# EAGLE library part UM12BS (library geusebio)
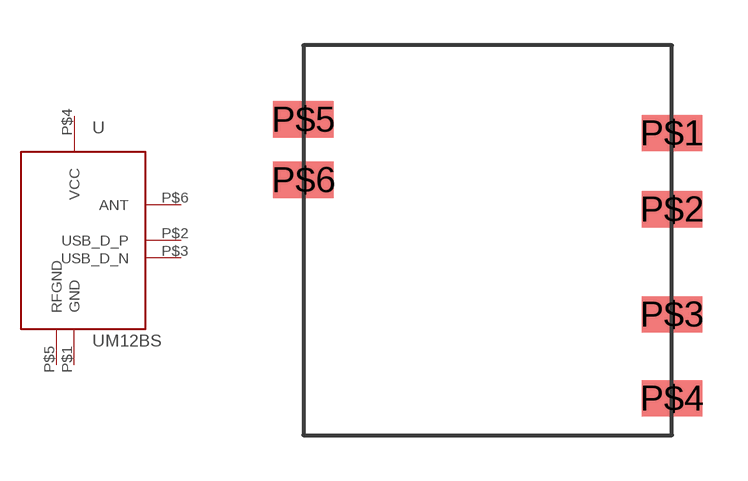
[diagram p17: symbol with the pads of UM12BS; footprint UM12BS]

Designator prefix -

## UM12BS  [UM12BS]
P$1  GND
P$2  USB_D_P
P$3  USB_D_N
P$4  VCC
P$5  RFGND
P$6  ANT

## Footprint UM12BS (pad centres in mm)
smd 2 x 1.2: P$1 6.096,3.548; P$2 6.096,1.026; P$3 6.096,-2.452; P$4 6.096,-5.229; P$5 -6.096,3.998; P$6 -6.096,1.998